# Altium schematic symbol library SnapEDAsch.SchLib: 1 symbol
Pins are listed as number, name and electrical type; pins without a type are passive.

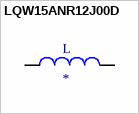
[diagram p0: symbol LQW15ANR12J00D]

## LQW15ANR12J00D
designator L
Inductor with Inductance: 120nH Tol. +/-5%, Package: 0402 _1005_; MP: LQW15ANR12J00D; MF: Murata; Digi-Key_Part_Number: 490-4091-1-ND; Value: *; SnapEDA_Link: https://www.snapeda.com/parts/LQW15ANR12J00D/Murata%20Electronics%20North%20America/view-part/494424/?ref=snap; Package: 1005 Murata; Digi-Key_Purchase_URL: https://www.digikey.com.au/product-detail/en/murata-electronics/LQW15ANR12J00D/490-4091-1-ND/1016351?utm_source=snapeda&utm_medium=aggregator&utm_campaign=symbol
footprint INDC1005X60N
pins: 1, 2